# EAGLE library part ADG621BRMZ (library SamacSys_Parts)
ADG621BRMZ, Analogue Switch Dual SPST, 3, 5V, 10-Pin, MSOP Source: Datasheet <http://www.analog.com/static/imported-files/data_sheets/ADG621_622_623.pdf>
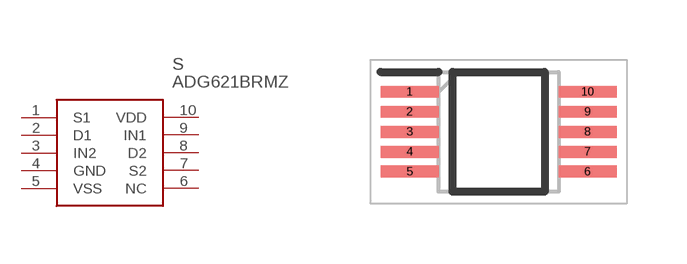
[diagram p0: symbol with the pads of SOP50P490X110-10N; footprint SOP50P490X110-10N]

Designator prefix S

## ADG621BRMZ (Description: ADG621BRMZ, Analogue Switch Dual SPST, 3, 5V, 10-Pin, MSOP; Height: 1.1mm; Manufacturer_Name: Analog Devices; Manufacturer_Part_Number: ADG621BRMZ; Mouser_Part_Number: 584-ADG621BRMZ; Mouser_Price-Stock: https://www.mouser.co.uk/ProductDetail/Analog-Devices/ADG621BRMZ?qs=BpaRKvA4VqFq1opwvWkqjQ%3D%3D)  [SOP50P490X110-10N]
1  S1
2  D1
3  IN2
4  GND
5  VSS
6  NC  nc
7  S2
8  D2
9  IN1
10  VDD

## Footprint SOP50P490X110-10N (pad centres in mm)
10-Lead Mini Small Outline Package [MSOP] (RM-10)-2
smd 1.45 x 0.3: 1 -2.225,1; 2 -2.225,0.5; 3 -2.225,0; 4 -2.225,-0.5; 5 -2.225,-1; 6 2.225,-1; 7 2.225,-0.5; 8 2.225,0; 9 2.225,0.5; 10 2.225,1